# EAGLE library part ADUM7441ARQZ (library ADUM7441)
1 kV RMS Quad-Channel Digital Isolators
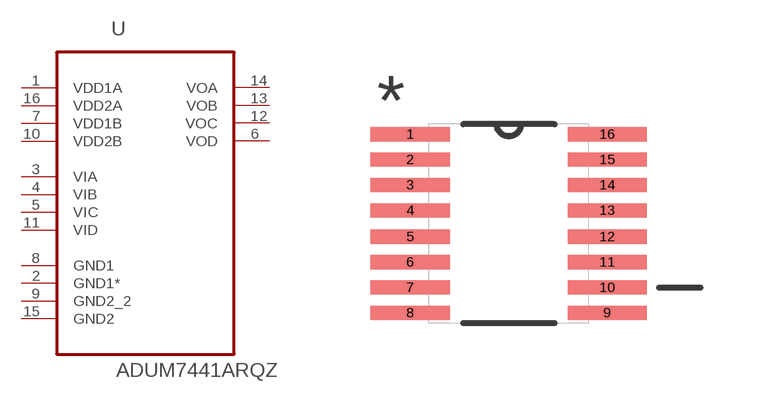
[diagram p0: symbol with the pads of SOP64P600X175-16N; footprint SOP64P600X175-16N]

Designator prefix U

## ADUM7441ARQZ (MPN: ADUM7441ARQZ; OC_FARNELL: 1827343; OC_NEWARK: 52R8099; PACKAGE: SOP-16; SUPPLIER: Analog Devices)  [SOP64P600X175-16N]
1  VDD1A  pwr
2  GND1*  pas
3  VIA  in
4  VIB  in
5  VIC  in
6  VOD  out
7  VDD1B  pwr
8  GND1  pas
9  GND2_2  pas
10  VDD2B  pwr
11  VID  in
12  VOC  out
13  VOB  out
14  VOA  out
15  GND2  pas
16  VDD2A  pwr

## Footprint SOP64P600X175-16N (pad centres in mm)
smd 1.981 x 0.356: 1 -2.464,2.235; 2 -2.464,1.6; 3 -2.464,0.965; 4 -2.464,0.33; 5 -2.464,-0.33; 6 -2.464,-0.965; 7 -2.464,-1.6; 8 -2.464,-2.235; 9 2.464,-2.235; 10 2.464,-1.6; 11 2.464,-0.965; 12 2.464,-0.33; 13 2.464,0.33; 14 2.464,0.965; 15 2.464,1.6; 16 2.464,2.235